# Altium footprint library 0603_L.PcbLib: 1 footprints
Each footprint in its own frame and in the unit in brackets; x right, y up, seen from the top. Pads: shape width x height; smd on the part's side, far side on the other; paste and mask are expansions set on the pad; w line width, h text height; cw(c..) or ccw(c..) is an arc to the next point about the centre after c.
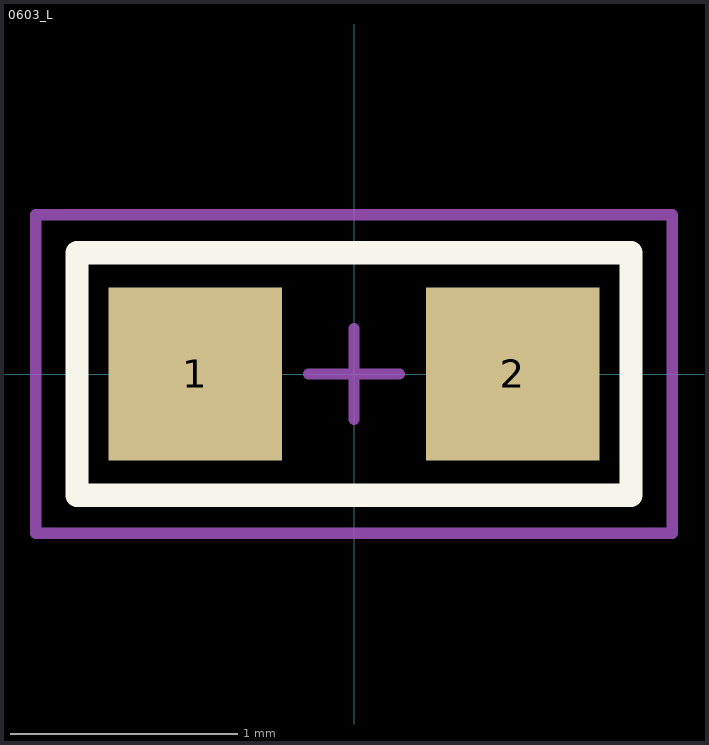
[diagram p0: the footprint, top view; thin cyan lines are the x and y axes]

## 0603_L [mil] "WE-CBF SMD EMI Suppression Ferrite Bead"
height 31.5
pads (2):
  rect 30x30 smd: 1(-27.5,0) 2(27.5,0)
TopOverlay:
  lines w4: -48,-21 -48,21 48,21 48,-21 -48,-21
Mechanical15:
  lines w1.97: -7.87,0 0,0 ; 0,-7.87 0,0 ; 0,7.87 0,0 ; 7.87,0 0,0 ; -55.12,-27.56 55.12,-27.56 55.12,27.56 -55.12,27.56 -55.12,-27.56
3D body: height 31.5, standoff 0, extent -23.04,-15 23.05,15
3D body: height 31.5, standoff 0, extent -34.9,-15 -23.09,15
3D body: height 31.5, standoff 0, extent 23.1,-15 34.91,15